# EAGLE library part TEENSY4.1 (library Teensy 4.1)
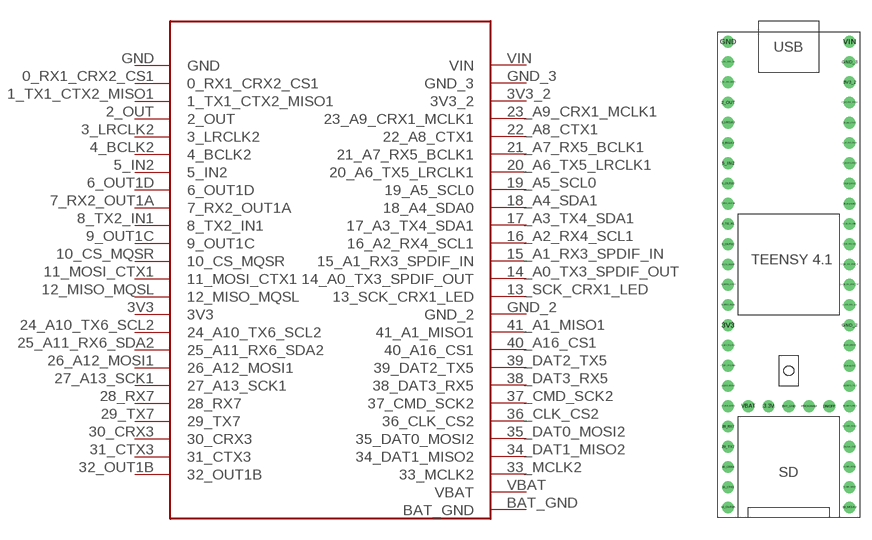
[diagram p0: symbol with the pads of TEENSY4.1; footprint TEENSY4.1]

Designator prefix -

## TEENSY4.1  [TEENSY4.1]
0_RX1_CRX2_CS1  0_RX1_CRX2_CS1
1_TX1_CTX2_MISO1  1_TX1_CTX2_MISO1
2_OUT  2_OUT
3_LRCLK2  3_LRCLK2
3V3  3V3
3V3_2  3V3_2
4_BCLK2  4_BCLK2
5_IN2  5_IN2
6_OUT1D  6_OUT1D
7_RX2_OUT1A  7_RX2_OUT1A
8_TX2_IN1  8_TX2_IN1
9_OUT1C  9_OUT1C
10_CS_MQSR  10_CS_MQSR
11_MOSI_CTX1  11_MOSI_CTX1
12_MISO_MQSL  12_MISO_MQSL
13_SCK_CRX1_LED  13_SCK_CRX1_LED
14_A0_TX3_SPDIF_OUT  14_A0_TX3_SPDIF_OUT
15_A1_RX3_SPDIF_IN  15_A1_RX3_SPDIF_IN
16_A2_RX4_SCL1  16_A2_RX4_SCL1
17_A3_TX4_SDA1  17_A3_TX4_SDA1
18_A4_SDA1  18_A4_SDA0
19_A5_SCL0  19_A5_SCL0
20_A6_TX5_LRCLK1  20_A6_TX5_LRCLK1
21_A7_RX5_BCLK1  21_A7_RX5_BCLK1
22_A8_CTX1  22_A8_CTX1
23_A9_CRX1_MCLK1  23_A9_CRX1_MCLK1
24_A10_TX6_SCL2  24_A10_TX6_SCL2
25_A11_RX6_SDA2  25_A11_RX6_SDA2
26_A12_MOSI1  26_A12_MOSI1
27_A13_SCK1  27_A13_SCK1
28_RX7  28_RX7
29_TX7  29_TX7
30_CRX3  30_CRX3
31_CTX3  31_CTX3
32_OUT1B  32_OUT1B
33_MCLK2  33_MCLK2
34_DAT1_MISO2  34_DAT1_MISO2
35_DAT0_MOSI2  35_DAT0_MOSI2
36_CLK_CS2  36_CLK_CS2
37_CMD_SCK2  37_CMD_SCK2
38_DAT3_RX5  38_DAT3_RX5
39_DAT2_TX5  39_DAT2_TX5
40_A16_CS1  40_A16_CS1
41_A1_MISO1  41_A1_MISO1
BAT_GND  BAT_GND
GND  GND
GND_2  GND_2
GND_3  GND_3
VBAT  VBAT
VIN  VIN

## Footprint TEENSY4.1 (pad centres in mm)
drill 0.965: 0_RX1_CRX2_CS1 -7.62,26.67; 1_TX1_CTX2_MISO1 -7.62,24.13; 2_OUT -7.62,21.59; 3.3V -2.54,-16.51; 3_LRCLK2 -7.62,19.05; 3V3 -7.62,-6.35; 3V3_2 7.62,24.13; 4_BCLK2 -7.62,16.51; 5_IN2 -7.62,13.97; 6_OUT1D -7.62,11.43; 7_RX2_OUT1A -7.62,8.89; 8_TX2_IN1 -7.62,6.35; 9_OUT1C -7.62,3.81; 10_CS_MQSR -7.62,1.27; 11_MOSI_CTX1 -7.62,-1.27; 12_MISO_MQSL -7.62,-3.81; 13_SCK_CRX1_LED 7.62,-3.81; 14_A0_TX3_SPDIF_OUT 7.62,-1.27; 15_A1_RX3_SPDIF_IN 7.62,1.27; 16_A2_RX4_SCL1 7.62,3.81; 17_A3_TX4_SDA1 7.62,6.35; 18_A4_SDA1 7.62,8.89; 19_A5_SCL0 7.62,11.43; 20_A6_TX5_LRCLK1 7.62,13.97; 21_A7_RX5_BCLK1 7.62,16.51; 22_A8_CTX1 7.62,19.05; 23_A9_CRX1_MCLK1 7.62,21.59; 24_A10_TX6_SCL2 -7.62,-8.89; 25_A11_RX6_SDA2 -7.62,-11.43; 26_A12_MOSI1 -7.62,-13.97; 27_A13_SCK1 -7.62,-16.51; 28_RX7 -7.62,-19.05; 29_TX7 -7.62,-21.59; 30_CRX3 -7.62,-24.13; 31_CTX3 -7.62,-26.67; 32_OUT1B -7.62,-29.21; 33_MCLK2 7.62,-29.21; 34_DAT1_MISO2 7.62,-26.67; 35_DAT0_MOSI2 7.62,-24.13; 36_CLK_CS2 7.62,-21.59; 37_CMD_SCK2 7.62,-19.05; 38_DAT3_RX5 7.62,-16.51; 39_DAT2_TX5 7.62,-13.97; 40_A16_CS1 7.62,-11.43; 41_A1_MISO1 7.62,-8.89; BAT_GND 0,-16.51; GND -7.62,29.21; GND_2 7.62,-6.35; GND_3 7.62,26.67; ON/OFF 5.08,-16.51; PROGRAM 2.54,-16.51; VBAT -5.08,-16.51; VIN 7.62,29.21